# EAGLE library part AL8860MP-13 (library AL8860MP-13)
LED Lighting Drivers LED MV Int Switch Source: Datasheet <https://componentsearchengine.com/Datasheets/1/AL8860MP-13.pdf>
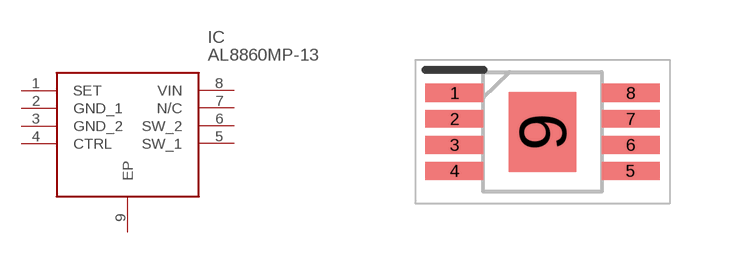
[diagram p0: symbol with the pads of SOP65P490X110-9N; footprint SOP65P490X110-9N]

Designator prefix IC

## AL8860MP-13 (Arrow_Part_Number: AL8860MP-13; Arrow_Price-Stock: https://www.arrow.com/en/products/al8860mp-13/diodes-incorporated?region=nac; Description: LED Lighting Drivers LED MV Int Switch; Height: 1.1mm; Manufacturer_Name: Diodes Incorporated; Manufacturer_Part_Number: AL8860MP-13; Mouser_Part_Number: 621-AL8860MP-13; Mouser_Price-Stock: https://www.mouser.co.uk/ProductDetail/Diodes-Incorporated/AL8860MP-13?qs=4i%252Bwv%252B9cc4kIG8OqmNMtAA%3D%3D)  [SOP65P490X110-9N]
1  SET  in
2  GND_1  pwr
3  GND_2  pwr
4  CTRL  in
5  SW_1
6  SW_2
7  N/C  nc
8  VIN  pwr
9  EP

## Footprint SOP65P490X110-9N (pad centres in mm)
MSOP-8EP_2
smd 1.45 x 0.45: 1 -2.2,0.975; 2 -2.2,0.325; 3 -2.2,-0.325; 4 -2.2,-0.975; 5 2.2,-0.975; 6 2.2,-0.325; 7 2.2,0.325; 8 2.2,0.975
smd 1.7 x 2: 9 0,0